# Altium footprint library Connector_BarrelJack.PcbLib: 3 footprints
Each footprint in its own frame and in the unit in brackets; x right, y up, seen from the top. Pads: shape width x height; smd on the part's side, far side on the other; paste and mask are expansions set on the pad; w line width, h text height; cw(c..) or ccw(c..) is an arc to the next point about the centre after c.
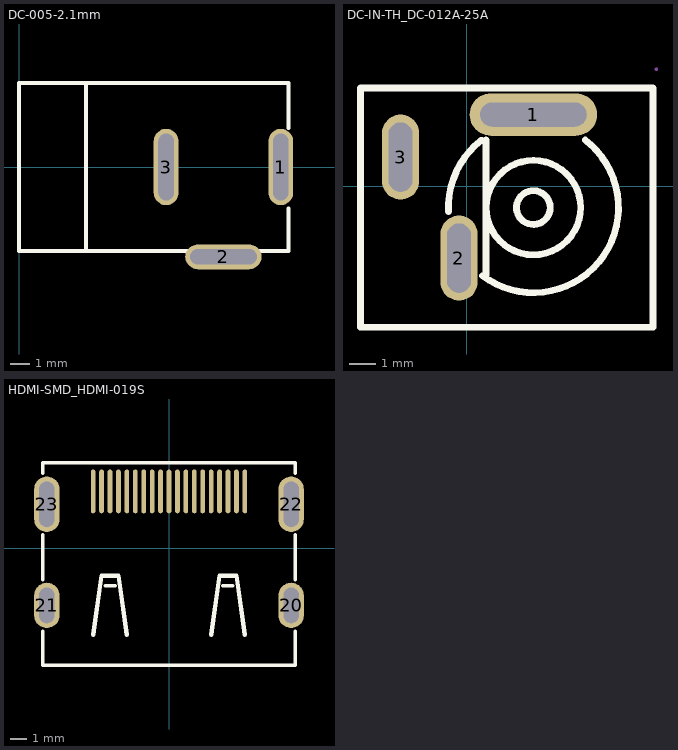
[diagram p0: the footprints below, top view; thin cyan lines are the x and y axes]

## DC-005-2.1mm [mm]
pads (3):
  oval 1.3x4 hole 0.8 slot 3.5 at 90 deg: 1(13.7,0) 3(7.7,0)
  oval 4x1.3 hole 0.8 slot 3.5 at 0 deg: 2(10.7,-4.7)
Top Overlay:
  lines w0.203: 3.5,-4.4 3.5,4.4 ; 14.097,-2.159 14.097,-4.4 3.3,-4.4 0,-4.4 0,4.4 3.3,4.4 14.097,4.4 14.097,2.032
3D body "User Library-DC_Power.STEP": height 11.1, standoff -3.4, extent 0,-4.65 14.4,4.65

## DC-IN-TH_DC-012A-25A [mm]
pads (3):
  oval 4.8x1.6 hole 0.9 slot 4 at 0 deg: 1(2.499,2.7)
  oval 1.4x3.2 hole 0.9 slot 2.6 at 90 deg copper offset 0.001,0: 2(-0.299,-2.7) 3(-2.498,1.1)
Top Overlay:
  circle w0.254: c2.499,-0.8 r0.635
  circle w0.254: c2.499,-0.8 r1.778
  lines w0.254: -0.696,-0.951 cw(c2.499,-0.8) 0.544,1.732 ; 0.579,-3.361 ccw(c2.501,-0.801) 4.448,1.739 ; 0.721,-3.34 0.721,1.74 ; 6.999,-5.3 -4,-5.3 -4,3.7 6.999,3.7 ; 7,-5.301 7,2.38 7,3.701
Mechanical 15:
  region: 0.059,-1.85 0.059,-3.55 -0.661,-3.55 -0.661,-1.85
  region: -2.141,1.95 -2.141,0.25 -2.861,0.25 -2.861,1.95
  region: 4.049,2.34 0.949,2.34 0.949,3.06 4.049,3.06
  region: 7.187,4.407 7.187,4.432 7.152,4.467 7.102,4.467 7.067,4.432 7.067,4.407 7.067,4.382 7.102,4.347 7.152,4.347 7.187,4.382 7.187,4.407
  lines w0.051: -4.001,-5.3 -4.001,3.7 6.999,3.7 6.999,-5.3 -4.001,-5.3
3D body "1.STEP": height 13.9, standoff -4, extent -4.006,-5.3 7.004,3.7

## HDMI-SMD_HDMI-019S [mm]
pads (23):
  oval 0.28x2.596 smd: 1(4.501,3.379) 2(4,3.379) 3(3.5,3.379) 4(3,3.379) 5(2.499,3.379) 6(1.999,3.379) 7(1.501,3.379) 8(1.001,3.379) 9(0.5,3.379) 10(0,3.379) 11(-0.5,3.379) 12(-1.001,3.379) 13(-1.499,3.379) 14(-1.999,3.379) 15(-2.499,3.379) 16(-3,3.379) 17(-3.5,3.379) 18(-4,3.379) 19(-4.501,3.379)
  oval 1.5x2.699 hole 0.9 slot 2.1 at 90 deg copper offset 0.001,-0.001: 20(7.25,-3.38)
  oval 1.5x2.699 hole 0.9 slot 2.1 at 90 deg copper offset -0.001,-0.001: 21(-7.25,-3.38)
  oval 1.5x3.299 hole 0.9 slot 2.7 at 90 deg copper offset 0.001,-0.001: 22(7.25,2.62)
  oval 1.5x3.299 hole 0.9 slot 2.7 at 90 deg copper offset -0.001,-0.001: 23(-7.25,2.62)
Top Overlay:
  lines w0.2: -7.5,-4.9 -7.5,-6.93 7.5,-6.93 7.5,-4.9 ; -7.5,-1.859 -7.5,0.8 ; -7.5,4.441 -7.5,5.079 7.5,5.079 7.5,4.44 ; -3.8,-2.22 -3.2,-2.22 ; 3.2,-2.22 3.8,-2.22 ; 7.5,-1.859 7.5,0.8
  lines w0.254: -4.5,-5.121 -4,-1.621 -3,-1.621 -2.5,-5.121 ; 2.5,-5.121 3,-1.621 4,-1.621 4.5,-5.121
3D body "22222.step": height 5.78, standoff -2.23, extent -7.5,-8.001 7.5,3.899